# EAGLE library part MSP430F2013 (library 1_USER)
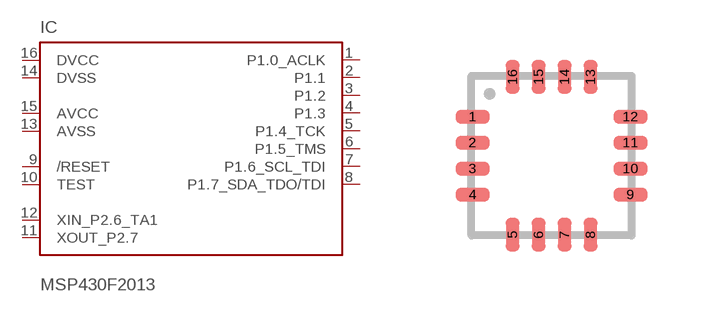
[diagram p11: symbol with the pads of S-PQFP-N16; footprint S-PQFP-N16]

Designator prefix IC

## MSP430F2013  [S-PQFP-N16]
1  P1.0_ACLK
2  P1.1
3  P1.2
4  P1.3
5  P1.4_TCK
6  P1.5_TMS
7  P1.6_SCL_TDI
8  P1.7_SDA_TDO/TDI
9  /RESET  in
10  TEST  in
11  XOUT_P2.7
12  XIN_P2.6_TA1
13  AVSS  pwr
14  DVSS  pwr
15  AVCC  pwr
16  DVCC  pwr

## Footprint S-PQFP-N16 (pad centres in mm)
smd 0.85 x 0.35: 1 -1.975,0.975; 2 -1.975,0.325; 3 -1.975,-0.325; 4 -1.975,-0.975; 9 1.975,-0.975; 10 1.975,-0.325; 11 1.975,0.325; 12 1.975,0.975
smd 0.35 x 0.85: 5 -0.975,-1.975; 6 -0.325,-1.975; 7 0.325,-1.975; 8 0.975,-1.975; 13 0.975,1.975; 14 0.325,1.975; 15 -0.325,1.975; 16 -0.975,1.975